# EAGLE library part TPS2391 (library ic)
TPS2391: -48V hotswap controller (Texas Instruments) -36...-80V
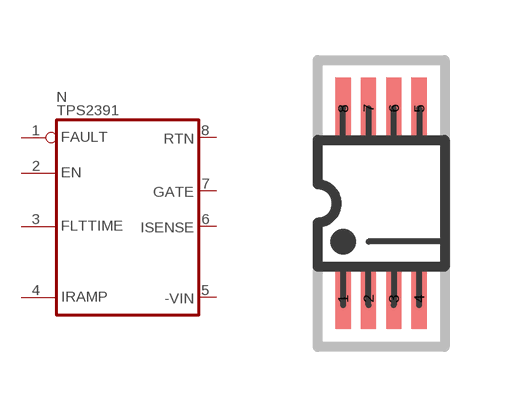
[diagram p123: symbol with the pads of USOP08; footprint USOP08]

Designator prefix N

## TPS2391  [USOP08]
1  FAULT  out
2  EN  in
3  FLTTIME  pas
4  IRAMP  pas
5  -VIN  pwr
6  ISENSE  in
7  GATE  out
8  RTN  pwr

## Footprint USOP08 (pad centres in mm)
µSOP-8: Fine-pitch SMD, 8 pins
smd 0.381 x 1.524: 1 -0.953,-2.381; 2 -0.318,-2.381; 3 0.318,-2.381; 4 0.953,-2.381; 5 0.953,2.381; 6 0.318,2.381; 7 -0.318,2.381; 8 -0.953,2.381